# Altium footprint library SOT95P280X125-6N.PcbLib: 1 footprints
Each footprint in its own frame and in the unit in brackets; x right, y up, seen from the top. Pads: shape width x height; smd on the part's side, far side on the other; paste and mask are expansions set on the pad; w line width, h text height; cw(c..) or ccw(c..) is an arc to the next point about the centre after c.
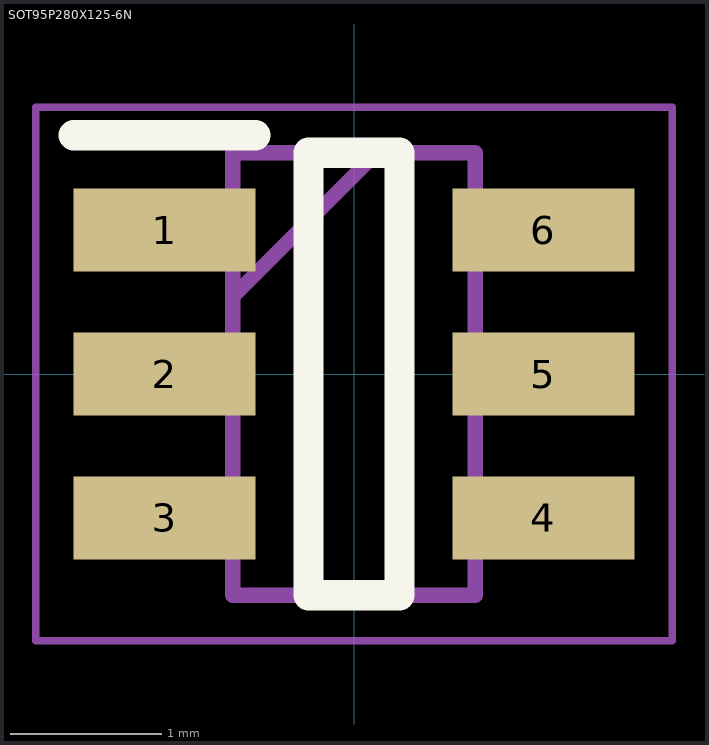
[diagram p0: the footprint, top view; thin cyan lines are the x and y axes]

## SOT95P280X125-6N [mm]
pads (6):
  rect 1.2x0.55 smd: 1(-1.25,0.95) 2(-1.25,0) 3(-1.25,-0.95) 4(1.25,-0.95) 5(1.25,0) 6(1.25,0.95)
Top Overlay:
  lines w0.2: -1.85,1.575 -0.65,1.575 ; -0.3,-1.46 0.3,-1.46 0.3,1.46 -0.3,1.46 -0.3,-1.46
Mechanical 15:
  lines w0.1: -0.8,0.51 0.15,1.46 ; -0.8,-1.46 0.8,-1.46 0.8,1.46 -0.8,1.46 -0.8,-1.46
Mechanical 20:
  lines w0.05: -2.1,-1.76 2.1,-1.76 2.1,1.76 -2.1,1.76 -2.1,-1.76